# EAGLE library part ADP1607 (library Mine)
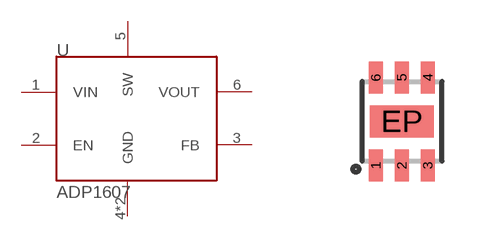
[diagram p72: symbol with the pads of LFCSP6; footprint LFCSP6]

Designator prefix -

## ADP1607  [LFCSP6]
1  VIN  in
2  EN  in
3  FB  in
4  GND  sup
5  SW  in
6  VOUT  out
EP  GND  sup

## Footprint LFCSP6 (pad centres in mm)
smd 0.35 x 0.8: 1 -0.65,-1.1; 2 0,-1.1; 3 0.65,-1.1; 4 0.65,1.1; 5 0,1.1; 6 -0.65,1.1
smd 1.6 x 0.8: EP 0,0